# Altium schematic symbol library SCH - OPAMP - ANALOG DEV AD8541 KS-RJ.SCHLIB: 1 symbol
Pins are listed as number, name and electrical type; pins without a type are passive.

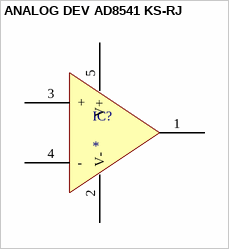
[diagram p0: symbol ANALOG DEV AD8541 KS-RJ]

## ANALOG DEV AD8541 KS-RJ
designator IC?
pins: 1 OUT, 2 V-, 3 +, 4 -, 5 V+